# Altium integrated library Interconnects.IntLib: 3 symbols
Pins are listed as number, name and electrical type; pins without a type are passive.

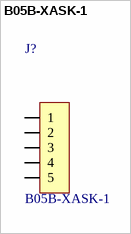
[diagram p0: symbol B05B-XASK-1]

## B05B-XASK-1
designator J?
XA series header, shrouded, Polarizing boss, 2.5mm pitch, 5 pin; Manufacturer: JST (Japan Solderless Terminals); Mates with: XAP-05V-1; Orientation: Vertical; Part Number: B05B-XASK-1
footprint XA-HDR-5PIN-VERT (XA Series, 5 pin vertical header with shroud and locking ramp.)
3D model B05B-XASK-1 (PCB3D Model)
pins: 1, 2, 3, 4, 5


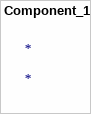
[diagram p1: symbol Component_1]

## Component_1
designator *


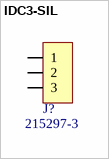
[diagram p2: symbol IDC3-SIL]

## IDC3-SIL
designator J?, comment 215297-3
Receptacle, Single Row, 3 Pin, .1" pitch, Vertical; Manufacturer: TE Connectivity; Orientation: Vertical; Mates With: *; PartNumber: 215297-3
footprint SIP-3-0.1 (Single in line package, 3 pin, unshrouded, 0.1" Pitch)
3D model TE-215297-3 (PCB3D Model)
pins: 1, 2, 3